# EAGLE library part AVR_SPI_PRG_6 (library PiB_connectors)
AVR ISP 6 Pin This is the reduced ISP connector for AVR programming. Common on Arduino. This footprint will take up less PCB space and can be used with a 10-pin to 6-pin adapter such as SKU: BOB-08508
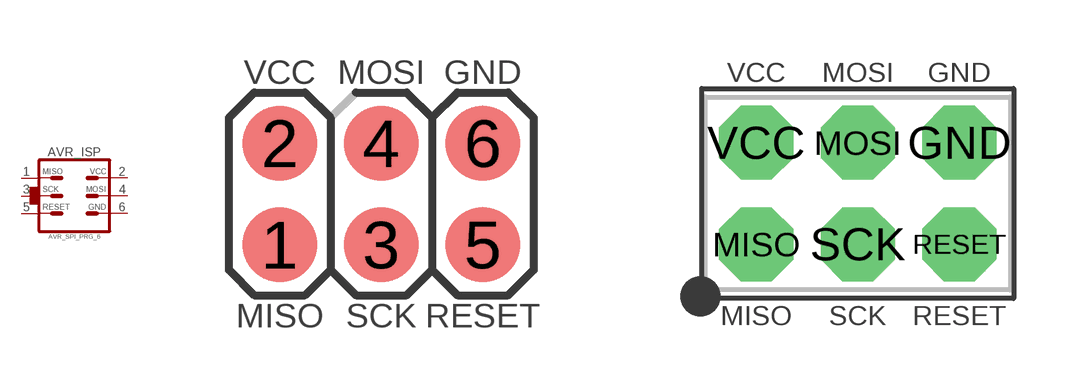
[diagram p4: symbol with the pads of 2X3-NS-PAD; footprints 2X3-NS-PAD, HDRV6W64P254_2X3_762X483X838B_AVR-ISP]

Designator prefix AVR_ISP

## AVR_SPI_PRG_6NS-PAD  [2X3-NS-PAD]
1  MISO
2  VCC  nc
3  SCK
4  MOSI
5  RESET
6  GND  pwr

## AVR_SPI_PRG_6_PTH_VERT_MALE_2.54MM (DATASHEET: https://cdn.amphenol-icc.com/media/wysiwyg/files/drawing/67996.pdf; DIST: Digikey; DISTLINK: https://www.digikey.com/products/en?keywords=609-3234-ND; DISTPN: 609-3234-ND; MFR: Amphenol FCI; MPN: 67997-206HLF; VALUE: PTH VERT MALE)  [HDRV6W64P254_2X3_762X483X838B_AVR-ISP]
GND  GND  pwr
MISO  MISO
MOSI  MOSI
RESET  RESET
SCK  SCK
VCC  VCC  nc

## Footprint 2X3-NS-PAD (pad centres in mm)
smd 1.88 x 1.88: 1 -2.54,-1.27; 2 -2.54,1.27; 3 0,-1.27; 4 0,1.27; 5 2.54,-1.27; 6 2.54,1.27

## Footprint HDRV6W64P254_2X3_762X483X838B_AVR-ISP (pad centres in mm)
Double-row, 6-pin Pin Header (Male) Straight, 2.54 mm (0.10 in) row pitch, 2.54 mm (0.10 in) col pitch, 5.84 mm mating length, 7.62 X 4.83 X 8.38 mm body Double-row (2X3), 6-pin Pin Header (Male) Straight package with 2.54 mm (0.10 in) row pitch, 2.54 mm (0.10 in) col pitch, 0.64 mm lead width, 3.05 mm tail length and 5.84 mm mating length with overall size 7.62 X 4.83 X 8.38 mm, pin pattern - clockwise from top left
drill 1 pad 1.85 octagon: GND 5.08,2.54; MISO 0,0; MOSI 2.54,2.54; RESET 5.08,0; SCK 2.54,0; VCC 0,2.54